# EAGLE library part W5500 (library W5500)
Ethernet ICs 3in1 Enet Controller TCP/IP +MAC+PHY Source: Datasheet <http://wizwiki.net/wiki/lib/exe/fetch.php?media=products:w5500:w5500_ds_v106e_141230.pdf>
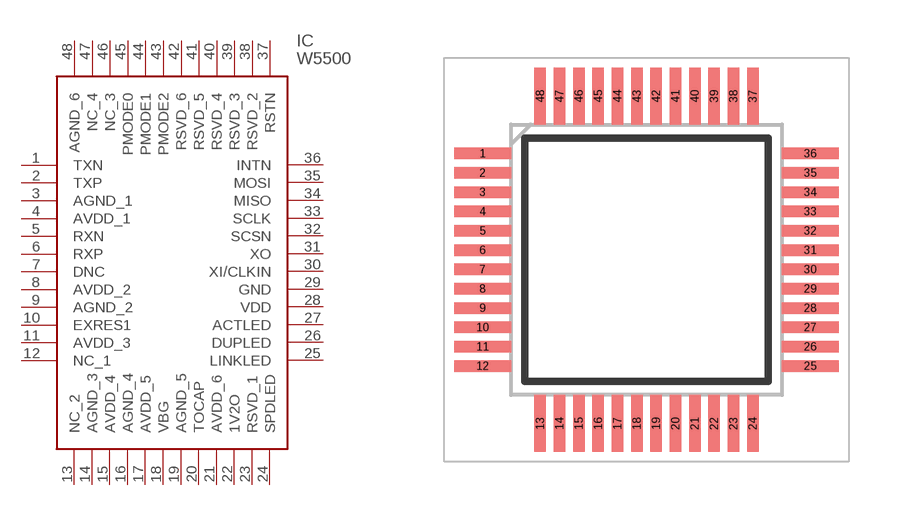
[diagram p0: symbol with the pads of QFP50P900X900X160-48N; footprint QFP50P900X900X160-48N]

Designator prefix IC

## W5500 (Description: Ethernet ICs 3in1 Enet Controller TCP/IP +MAC+PHY; Height: 1.6mm; Manufacturer_Name: WIZnet Inc; Manufacturer_Part_Number: W5500; Mouser_Part_Number: 950-W5500; Mouser_Price-Stock: https://www.mouser.co.uk/ProductDetail/WIZnet/W5500?qs=2vh%252B45pPFtzthUpYPd4pqA%3D%3D)  [QFP50P900X900X160-48N]
1  TXN
2  TXP
3  AGND_1
4  AVDD_1
5  RXN
6  RXP
7  DNC
8  AVDD_2
9  AGND_2
10  EXRES1
11  AVDD_3
12  NC_1
13  NC_2
14  AGND_3
15  AVDD_4
16  AGND_4
17  AVDD_5
18  VBG
19  AGND_5
20  TOCAP
21  AVDD_6
22  1V2O
23  RSVD_1
24  SPDLED
25  LINKLED
26  DUPLED
27  ACTLED
28  VDD
29  GND
30  XI/CLKIN
31  XO
32  SCSN
33  SCLK
34  MISO
35  MOSI
36  INTN
37  RSTN
38  RSVD_2
39  RSVD_3
40  RSVD_4
41  RSVD_5
42  RSVD_6
43  PMODE2
44  PMODE1
45  PMODE0
46  NC_3
47  NC_4
48  AGND_6

## Footprint QFP50P900X900X160-48N (pad centres in mm)
W5500(1.6mm)
smd 1.475 x 0.3: 1 -4.238,2.75; 2 -4.238,2.25; 3 -4.238,1.75; 4 -4.238,1.25; 5 -4.238,0.75; 6 -4.238,0.25; 7 -4.238,-0.25; 8 -4.238,-0.75; 9 -4.238,-1.25; 10 -4.238,-1.75; 11 -4.238,-2.25; 12 -4.238,-2.75; 25 4.238,-2.75; 26 4.238,-2.25; 27 4.238,-1.75; 28 4.238,-1.25; 29 4.238,-0.75; 30 4.238,-0.25; 31 4.238,0.25; 32 4.238,0.75; 33 4.238,1.25; 34 4.238,1.75; 35 4.238,2.25; 36 4.238,2.75
smd 0.3 x 1.475: 13 -2.75,-4.238; 14 -2.25,-4.238; 15 -1.75,-4.238; 16 -1.25,-4.238; 17 -0.75,-4.238; 18 -0.25,-4.238; 19 0.25,-4.238; 20 0.75,-4.238; 21 1.25,-4.238; 22 1.75,-4.238; 23 2.25,-4.238; 24 2.75,-4.238; 37 2.75,4.238; 38 2.25,4.238; 39 1.75,4.238; 40 1.25,4.238; 41 0.75,4.238; 42 0.25,4.238; 43 -0.25,4.238; 44 -0.75,4.238; 45 -1.25,4.238; 46 -1.75,4.238; 47 -2.25,4.238; 48 -2.75,4.238